# EAGLE library part ADM4854ARZ (library HyTechDevices)
ADM4854ARZ RS422 Transreceiver Datasheet <https://www.analog.com/media/en/technical-documentation/data-sheets/ADM4850_4851_4852_4853_4854_4855_4856_4857.pdf>
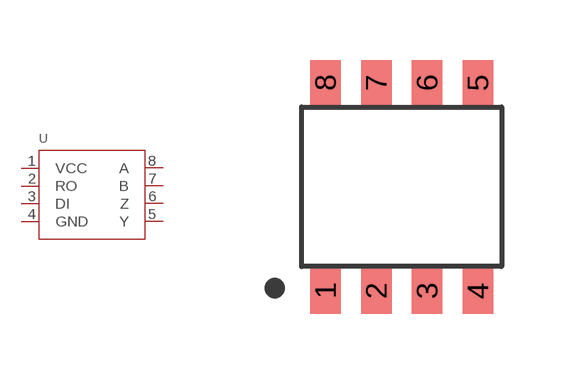
[diagram p64: symbol with the pads of SOIC-08(NARROW,0.15"); footprint SOIC-08(NARROW,0.15")]

Designator prefix U

## ADM4854ARZ (DKPN: 505-ADM4854ARZ-ND; MANUFACTURER: Analog Devices Inc.; MOPN: 584-ADM4854ARZ; MPN: ADM4854ARZ)  [SOIC-08(NARROW,0.15")]
1  VCC  pas
2  RO  pas
3  DI  pas
4  GND  pas
5  Y  pas
6  Z  pas
7  B  pas
8  A  pas

## Footprint SOIC-08(NARROW,0.15") (pad centres in mm)
SOIC-8 Datasheet <https://www.analog.com/media/en/package-pcb-resources/package/pkg_pdf/ltc-legacy-soic/05081610_G_SO8.pdf>
smd 0.762 x 1.143: 1 -1.905,-2.603; 2 -0.635,-2.603; 3 0.635,-2.603; 4 1.905,-2.603; 5 1.905,2.603; 6 0.635,2.603; 7 -0.635,2.603; 8 -1.905,2.603